# Altium footprint library TP_1x2mm.PcbLib: 1 footprints
Each footprint in its own frame and in the unit in brackets; x right, y up, seen from the top. Pads: shape width x height; smd on the part's side, far side on the other; paste and mask are expansions set on the pad; w line width, h text height; cw(c..) or ccw(c..) is an arc to the next point about the centre after c.
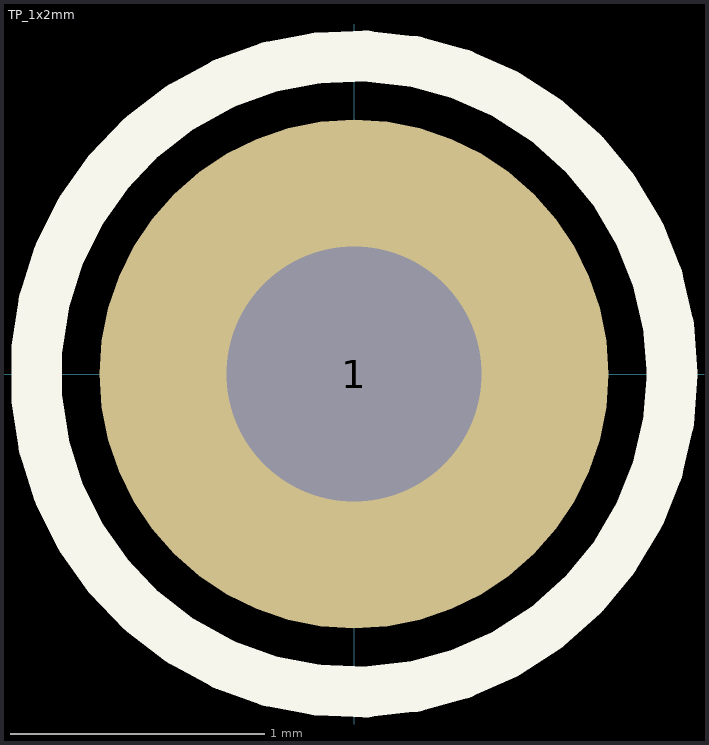
[diagram p0: the footprint, top view; thin cyan lines are the x and y axes]

## TP_1x2mm [mm]
pads (1):
  round 2 hole 1 mask+0.05: 1(0,0)
Top Overlay:
  circle w0.2: c0,0 r1.25